# Altium footprint library Passive.PcbLib: 35 footprints (part 2 of 3)
Each footprint in its own frame and in the unit in brackets; x right, y up, seen from the top. Pads: shape width x height; smd on the part's side, far side on the other; paste and mask are expansions set on the pad; w line width, h text height; cw(c..) or ccw(c..) is an arc to the next point about the centre after c.
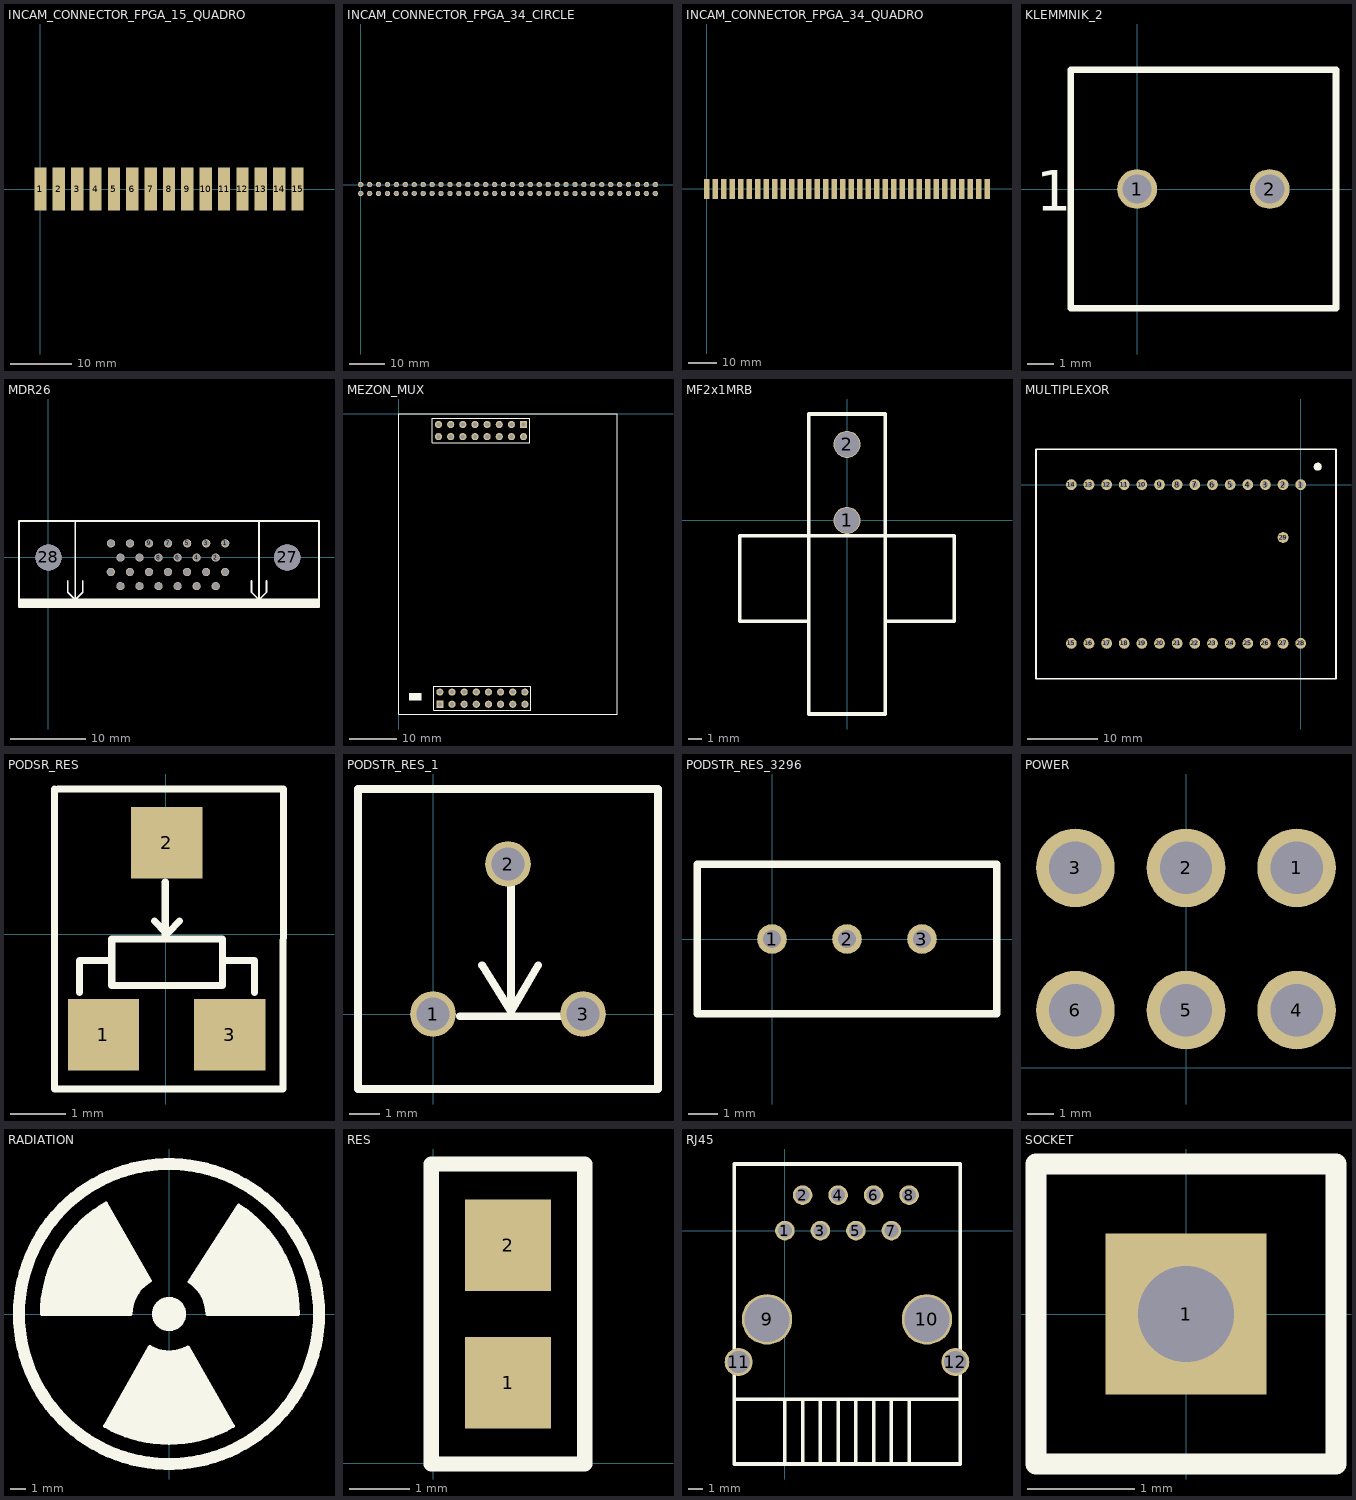
[diagram p1: the footprints below, top view; thin cyan lines are the x and y axes]

## INCAM_CONNECTOR_FPGA_15_QUADRO [mm]
pads (15):
  rect 2x7 smd: 1(0,0) 2(3,0) 3(6,0) 4(9,0) 5(12,0) 6(15,0) 7(18,0) 8(21,0) 9(24,0) 10(27,0) 11(30,0) 12(33,0) 13(36,0) 14(39,0) 15(42,0)

## INCAM_CONNECTOR_FPGA_34_CIRCLE [mil]
pads (68):
  round 60 hole 39.37: 1(0,-100) 1(0,0) 2(100,-100) 2(100,0) 3(200,-100) 3(200,0) 4(300,-100) 4(300,0) 5(400,-100) 5(400,0) 6(500,-100) 6(500,0) 7(600,-100) 7(600,0) 8(700,-100) 8(700,0) 9(800,-100) 9(800,0) 10(900,-100) 10(900,0) 11(1000,-100) 11(1000,0) 12(1100,-100) 12(1100,0) 13(1200,-100) 13(1200,0) 14(1300,-100) 14(1300,0) 15(1400,-100) 15(1400,0) 16(1500,-100) 16(1500,0) 17(1600,-100) 17(1600,0) 18(1700,-100) 18(1700,0) 19(1800,-100) 19(1800,0) 20(1900,-100) 20(1900,0) 21(2000,-100) 21(2000,0) 22(2100,-100) 22(2100,0) 23(2200,-100) 23(2200,0) 24(2300,-100) 24(2300,0) 25(2400,-100) 25(2400,0) 26(2500,-100) 26(2500,0) 27(2600,-100) 27(2600,0) 28(2700,-100) 28(2700,0) 29(2800,-100) 29(2800,0) 30(2900,-100) 30(2900,0) 31(3000,-100) 31(3000,0) 32(3100,-100) 32(3100,0) 33(3200,-100) 33(3200,0) 34(3300,-100) 34(3300,0)

## INCAM_CONNECTOR_FPGA_34_QUADRO [mm]
pads (34):
  rect 2x7 smd: 1(0,0) 2(3,0) 3(6,0) 4(9,0) 5(12,0) 6(15,0) 7(18,0) 8(21,0) 9(24,0) 10(27,0) 11(30,0) 12(33,0) 13(36,0) 14(39,0) 15(42,0) 16(45,0) 17(48,0) 18(51,0) 19(54,0) 20(57,0) 21(60,0) 22(63,0) 23(66,0) 24(69,0) 25(72,0) 26(75,0) 27(78,0) 28(81,0) 29(84,0) 30(87,0) 31(90,0) 32(93,0) 33(96,0) 34(99,0)

## KLEMMNIK_2 [mm]
pads (2):
  round 1.5 hole 1.1: 1(0,0) 2(5,0)
Top Overlay:
  lines w0.254: -2.5,-4.5 7.5,-4.5 7.5,4.5 -2.5,4.5 -2.5,-4.5
  text "1" at -3.81,-0.813 h1.52

## MDR26 [mm] "MDR26"
height 15
pads (28):
  round 1.1 hole 0.9: 1(23.571,1.88) 2(22.296,-0.015) 3(21.031,1.88) 4(19.756,-0.015) 5(18.491,1.88) 6(17.216,-0.015) 7(15.951,1.88) 8(14.676,-0.015) 9(13.411,1.88) 10(12.136,-0.015) 11(10.871,1.88) 12(9.596,-0.015) 13(8.331,1.88) 14(23.556,-1.93) 15(22.296,-3.82) 16(21.016,-1.93) 17(19.756,-3.82) 18(18.476,-1.93) 19(17.216,-3.82) 20(15.936,-1.93) 21(14.676,-3.82) 22(13.396,-1.93) 23(12.136,-3.82) 24(10.856,-1.93) 25(9.596,-3.82) 26(8.316,-1.93)
  round 3.5 hole 3.5: 27(31.826,0) 28(0,0)
Top Overlay:
  rectangle: -3.929,-6.62 36.071,-5.62
  lines w0.254: -3.929,-5.62 36.071,-5.62 ; 2.571,-3.12 2.571,-4.62 3.571,-5.62 ; 3.571,4.88 3.571,-5.62 ; 4.571,-3.12 4.571,-4.62 3.571,-5.62 ; 27.071,-3.12 27.071,-4.62 28.071,-5.62 ; 28.071,4.88 28.071,-5.62 ; 29.071,-3.12 29.071,-4.62 28.071,-5.62 ; -3.929,-6.62 -3.929,4.88 36.071,4.88 36.071,-6.62 -3.929,-6.62

## MEZON_MUX [mm]
pads (32):
  rect 1.5x1.5 hole 0.9: 1(8.612,-60.696) 17(26.112,-2.196)
  round 1.5 hole 0.9: 2(8.612,-58.156) 3(11.152,-60.696) 4(11.152,-58.156) 5(13.692,-60.696) 6(13.692,-58.156) 7(16.232,-60.696) 8(16.232,-58.156) 9(18.772,-60.696) 10(18.772,-58.156) 11(21.312,-60.696) 12(21.312,-58.156) 13(23.852,-60.696) 14(23.852,-58.156) 15(26.392,-60.696) 16(26.392,-58.156) 18(26.112,-4.736) 19(23.572,-2.196) 20(23.572,-4.736) 21(21.032,-2.196) 22(21.032,-4.736) 23(18.492,-2.196) 24(18.492,-4.736) 25(15.952,-2.196) 26(15.952,-4.736) 27(13.412,-2.196) 28(13.412,-4.736) 29(10.872,-2.196) 30(10.872,-4.736) 31(8.332,-2.196) 32(8.332,-4.736)
Top Overlay:
  rectangle: 2.184,-59.893 4.75,-58.395
  lines w0.2: 7.062,-6.006 27.382,-6.006 27.382,-0.926 7.062,-0.926 7.062,-6.006 ; 7.342,-61.966 27.662,-61.966 27.662,-56.886 7.342,-56.886 7.342,-61.966
  lines w0.254: 0,-62.738 0,0 45.72,0 45.72,-62.738 0,-62.738

## MF2x1MRB [mm]
height 10
pads (2):
  round 1.95 hole 1.8: 1(0,0) 2(0,5.5)
Top Overlay:
  lines w0.254: -2.8,-7.3 -7.75,-7.3 -7.75,-1.1 -2.75,-1.1 ; 0,0 0,-1.1 ; 2.75,-7.3 7.75,-7.3 7.75,-1.1 2.75,-1.1 ; -2.75,-1.1 0,-1.1 ; -2.75,-1.1 -2.75,-14 2.75,-14 2.75,-1.1 ; -2.75,-1.1 -2.75,7.7 2.75,7.7 2.75,-1.1 ; 0,-1.1 2.75,-1.1

## MULTIPLEXOR [mil]
pads (29):
  round 60 hole 30: 1(0,0) 2(-98.43,0) 3(-196.85,0) 4(-295.28,0) 5(-393.7,0) 6(-492.13,0) 7(-590.55,0) 8(-688.98,0) 9(-787.4,0) 10(-885.83,0) 11(-984.25,0) 12(-1082.68,0) 13(-1181.1,0) 14(-1279.53,0) 15(-1279.53,-885.83) 16(-1181.1,-885.83) 17(-1082.68,-885.83) 18(-984.25,-885.83) 19(-885.83,-885.83) 20(-787.4,-885.83) 21(-688.98,-885.83) 22(-590.55,-885.83) 23(-492.13,-885.83) 24(-393.7,-885.83) 25(-295.28,-885.83) 26(-196.85,-885.83) 27(-98.43,-885.83) 28(0,-885.83) 29(-98.43,-295.28)
Top Overlay:
  circle w10: c98.43,98.43 r3.47
  circle w10: c97,100 r10.44
  circle w10: c95,100 r17.46
  lines w10: -1476.38,-1082.68 -1476.38,196.85 196.85,196.85 196.85,-1082.68 -1476.38,-1082.68

## PODSR_RES [mm] "PODSR_RES"
height 5.08
pads (3):
  rect 1.3x1.3 smd: 1(-1.136,-1.83) 2(0.014,1.67) 3(1.164,-1.83)
Top Overlay:
  lines w0.13: -2.026,2.645 -2.026,-2.815 2.134,-2.815 2.139,2.645 ; -1.961,2.645 2.134,2.645 ; -1.571,-1.06 -1.571,-0.475 -0.986,-0.475 ; -0.206,0.24 -0.011,0.045 ; -0.011,-0.085 -0.011,0.955 ; 0.054,0.045 0.249,0.24 ; 1.029,-0.475 1.614,-0.475 1.614,-1.06 ; -0.986,-0.93 1.029,-0.93 1.029,-0.085 -0.986,-0.085 -0.986,-0.93

## PODSTR_RES_1 [mil] "PODSTR_RES_1"
height 100
pads (3):
  round 60 hole 43.31: 1(0,0) 2(98.43,196.85) 3(196.85,0)
Top Overlay:
  lines w10: 35.36,-2.85 166.36,-2.85 ; 64.36,64.15 102.36,3.15 ; 102.36,203.15 102.36,3.15 ; 138.36,64.15 102.36,3.15 ; -98.43,-98.43 -98.43,295.28 295.28,295.28 295.28,-98.43 -98.43,-98.43

## PODSTR_RES_3296 [mm]
pads (3):
  round 1 hole 0.6: 1(0,0) 2(2.54,0) 3(5.08,0)
Top Overlay:
  lines w0.254: -2.54,-2.54 7.62,-2.54 7.62,2.54 -2.54,2.54 -2.54,-2.54

## POWER [mm] "POWER"
height 12.7
pads (6):
  round 3 hole 2: 1(4.217,7.62) 2(0,7.62) 3(-4.217,7.62) 4(4.217,2.198) 5(0,2.198) 6(-4.217,2.198)

## RADIATION [mil]
Top Overlay:
  circle w10: c0,0 r40
  circle w31.5: c0,0 r393.7
  region: -334.07,0 -327,73 -302,146 -249,226 -165.74,290.05 -56.24,98.43 -49.8,87.15 -59.06,78.74 -88.58,49.21 -98.43,29.53 -100.37,0
  region: -42,0 -42,12 -16,38 11,38 23,33 33,24 40,9 40,-6 37,-22 22,-37 2,-37 -1,-40 -3,-38 -18,-38 -31,-25 -33,-25 -33,-21 -38,-16
  region: 56.49,88.58 145.79,227 183.14,284.89 199,276 264,217 275,199 306,149 319,112 329,89 336,54 337,44 337,25 339,23 339,0.33 338.67,0 100.37,0 93,39 78.74,68.9 65,78
  region: -50.15,-86.95 -14,-100 14,-101 49.45,-87.35 62,-109 90,-158.03 167.43,-293 127,-314 46,-337 -52,-335 -119,-319 -166.86,-292
  lines w10: 53.92,84.67 cw(c0,0) 100.37,0 338.67,0 ccw(c0,0) 183.14,284.89 53.95,84.64 ; -334.07,0 cw(c0,0) -165.74,290.05 -49.8,87.15 ccw(c0,0) -100.37,0 -334.07,0 ; -168.03,-294.05 ccw(c0,0) 168.03,-294.05 49.45,-87.35 cw(c0,0) -50.16,-86.94 -168.03,-294.05

## RES [mil] "FROM_MAX"
height 100
pads (2):
  rect 55.98x60 smd: 1(49,52.71) 2(49,142.71)
Top Overlay:
  lines w10: -1.2,194.44 -1.2,-0.44 99.2,-0.44 99.2,194.44 ; -1.2,195.86 99.2,195.86
3D body: height 100, standoff 0, extent 17.01,18.71 80.99,176.71

## RJ45 [mm]
pads (12):
  round 1.4 hole 1: 1(0,0) 2(1.27,2.54) 3(2.54,0) 4(3.81,2.54) 5(5.08,0) 6(6.35,2.54) 7(7.62,0) 8(8.89,2.54)
  round 3.6 hole 3.2: 9(-1.27,-6.35) 10(10.16,-6.35)
  round 2 hole 1.6: 11(-3.302,-9.398) 12(12.192,-9.398)
Top Overlay:
  lines w0.254: -3.607,-12.065 12.543,-12.065 ; 0,-16.637 0,-12.065 ; 1.27,-16.637 1.27,-12.065 ; 2.54,-16.637 2.54,-12.065 ; 3.81,-16.637 3.81,-12.065 ; 5.08,-16.637 5.08,-12.065 ; 6.35,-16.637 6.35,-12.065 ; 7.62,-16.637 7.62,-12.065 ; 8.89,-16.637 8.89,-12.065 ; -3.607,-16.688 -3.607,4.762 12.543,4.762 12.543,-16.688 -3.607,-16.688

## SOCKET [mm] "SOCKET"
height 10
pads (1):
  rect 1.5x1.5 hole 0.9: 1(0,0)
Top Overlay:
  lines w0.2: -1.4,-1.4 1.4,-1.4 1.4,1.4 -1.4,1.4 -1.4,-1.4